# Altium footprint library PcbLib1.PcbLib: 39 footprints (part 2 of 3)
Each footprint in its own frame and in the unit in brackets; x right, y up, seen from the top. Pads: shape width x height; smd on the part's side, far side on the other; paste and mask are expansions set on the pad; w line width, h text height; cw(c..) or ccw(c..) is an arc to the next point about the centre after c.
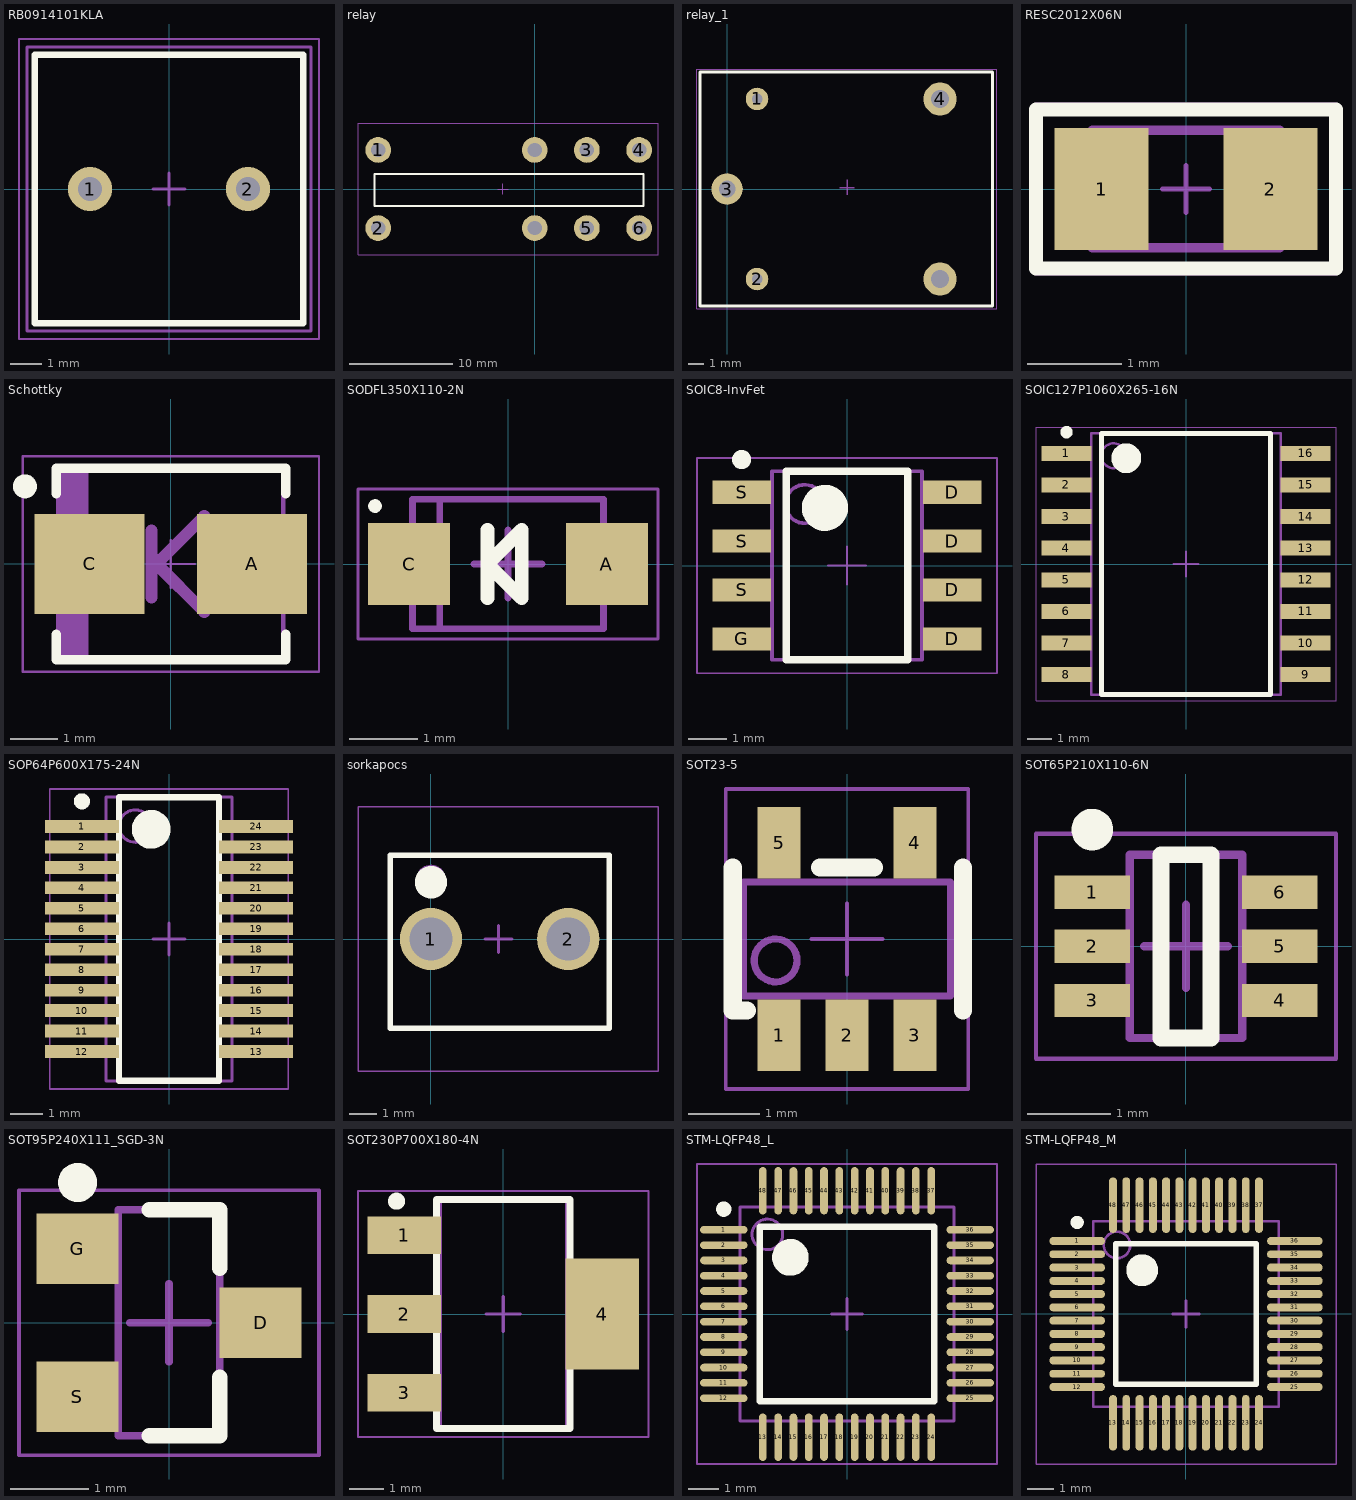
[diagram p1: the footprints below, top view; thin cyan lines are the x and y axes]

## RB0914101KLA [mm]
pads (2):
  round 1.4 hole 0.75: 1(-2.5,0) 2(2.5,0)
Top Overlay:
  lines w0.2: -4.25,-4.25 -4.25,4.25 4.25,4.25 4.25,-4.25 -4.25,-4.25
Mechanical 11:
  text ".Designator" at -4,4.25 h1
Mechanical 14:
  lines w0.1: -4.5,-4.5 -4.5,4.5 4.5,4.5 4.5,-4.5 -4.5,-4.5
Mechanical 15:
  lines w0.05: -4.75,-4.75 -4.75,4.75 4.75,4.75 4.75,-4.75 -4.75,-4.75
  lines w0.1: -0.5,0 0.5,0 ; 0,-0.5 0,0.5
3D body: height 12, standoff 0, extent -4.4,-4.4 4.4,4.4

## relay [mm]
pads (8):
  round 2.5 hole 1.4: 1(-15.24,3.8) 2(-15.24,-3.8) 3(5.08,3.8) 4(10.16,3.8) 5(5.08,-3.8) 6(10.16,-3.8) ""(0,-3.8) ""(0,3.8)
Top Overlay:
  lines w0.2: -15.6,-1.65 10.6,-1.65 10.6,1.45 -15.6,1.45 -15.6,-1.65
Mechanical 11:
  text ".Designator" at -9.2,7.225 h1
Mechanical 15:
  lines w0.05: -17.2,-6.4 12,-6.4 12,6.4 -17.2,6.4 -17.2,-6.4
  lines w0.1: -3.6,0 -2.6,0 ; -3.1,-0.5 -3.1,0.5
3D body: height 20.8, standoff 0, extent -17.1,-6.3 11.9,6.3

## relay_1 [mm]
pads (5):
  round 1.5 hole 0.7: 1(2,6) 2(2,-6)
  round 2.1 hole 1.1: 3(0,0)
  round 2.2 hole 1.2: 4(14.2,6) ""(14.2,-6)
Top Overlay:
  lines w0.2: -1.8,-7.8 17.7,-7.8 17.7,7.8 -1.8,7.8 -1.8,-7.8
Mechanical 11:
  text ".Designator" at 2.5,8.3 h1
Mechanical 15:
  lines w0.05: -2,-8 18,-8 18,8 -2,8 -2,-8
  lines w0.1: 7.5,0.1 8.5,0.1 ; 8,-0.4 8,0.6
3D body: height 15, standoff 0, extent -2,-7.9 17.5,7.9

## RESC2012X06N [mm] "Chip Resistor, 2-Leads, Body 2,00x1,25mm, IPC Low Density"
height 0.6
pads (2):
  rect 1x1.3 smd: 1(-0.9,0) 2(0.9,0)
Top Overlay:
  lines w0.15: -1.6,-0.85 -1.6,0.85 1.6,0.85 1.6,-0.85 -1.6,-0.85
Mechanical 11:
  text ".Designator" at -1.5,1.1 h0.3
Mechanical 14:
  lines w0.1: -0.6,-0.625 -0.6,0.625 ; 0.6,-0.625 0.6,0.625 ; -1,-0.625 1,-0.625 1,0.625 -1,0.625 -1,-0.625
Mechanical 15:
  lines w0.05: -0.25,0 0.25,0 ; 0,-0.25 0,0.25 ; -1.6,-0.9 -1.6,0.9 1.6,0.9 1.6,-0.9 -1.6,-0.9
3D body "0805rES.step": height 0.45, standoff 0, extent -1,-0.625 1,0.625

## Schottky [mm] "Molded Diode, 2-Leads, Body 4,38x3,62mm, IPC Medium Density"
height 2.5
pads (2):
  rect 2.3x2.1 smd: A(1.7,0) C(-1.7,0)
Top Overlay:
  circle w0.25: c-3.05,1.625 r0.125
  lines w0.2: -2.4,-1.475 -2.4,-2 2.4,-2 2.4,-1.475 ; -2.4,1.475 -2.4,2 2.4,2 2.4,1.475
Mechanical 11:
  text ".Designator" at -1.25,-0.1 h0.3
Mechanical 14:
  rectangle: -2.35,-1.97 -1.718,1.97
  lines w0.1: -2.35,-1.97 -2.35,1.97 2.35,1.97 2.35,-1.97 -2.35,-1.97
  lines w0.254: -0.4,-0.7 -0.4,0.7 ; -0.3,0 0.7,-1 0.7,1 -0.2,0.1 -0.3,0
Mechanical 15:
  lines w0.05: -0.5,0 0.5,0 ; 0,-0.5 0,0.5 ; -3.1,-2.25 -3.1,2.25 3.1,2.25 3.1,-2.25 -3.1,-2.25
3D body "DO-214AA_SMB.step": height 2.24, standoff -0.01, extent -2.65,-1.85 2.65,1.85

## SODFL350X110-2N [mm] "SODFL, 2-Leads, Body 1,70x3,50mm, IPC Medium Density"
height 1.1
pads (2):
  rect 1.2x1.2 smd: A(1.45,0) C(-1.45,0)
Top Overlay:
  circle w0.1: c-1.95,0.85 r0.05
  lines w0.2: -0.3,-0.5 -0.3,0.5 ; -0.3,0 0.2,0.5 0.2,-0.5 -0.3,0
Mechanical 11:
  text ".Designator" at -0.75,-0.3 h1
Mechanical 14:
  lines w0.1: -1,-0.95 -1,0.95 ; -1.4,-0.95 1.4,-0.95 1.4,0.95 -1.4,0.95 -1.4,-0.95
Mechanical 15:
  lines w0.05: -2.2,-1.1 2.2,-1.1 2.2,1.1 -2.2,1.1 -2.2,-1.1
  lines w0.1: -0.5,0 0.5,0 ; 0,-0.5 0,0.5
3D body "SODFL350X110-2N.step": height 1.1, standoff 0, extent -1.75,-0.95 1.75,0.95

## SOIC8-InvFet [mm] "SOIC, 8-Leads, Body 4.9x3.9mm, Pitch 1.27mm"
height 1.75
pads (8):
  rect 1.52x0.6 smd: D(2.74,-1.905) D(2.74,-0.635) D(2.74,0.635) D(2.74,1.905) G(-2.74,-1.905) S(-2.74,-0.635) S(-2.74,0.635) S(-2.74,1.905)
Top Overlay:
  circle w0.25: c-2.74,2.755 r0.125
  circle w0.6: c-0.575,1.5 r0.3
  lines w0.2: -1.58,-2.45 -1.58,2.45 1.58,2.45 1.58,-2.45 -1.58,-2.45
Mechanical 11:
  text ".Designator" at -4,0.5 h1
Mechanical 14:
  circle w0.1: c-1.1,1.6 r0.5
  lines w0.1: -1.95,-2.45 -1.95,2.45 1.95,2.45 1.95,-2.45 -1.95,-2.45
Mechanical 15:
  lines w0.05: -0.5,0 0.5,0 ; 0,-0.5 0,0.5 ; -3.9,-2.8 -3.9,2.8 3.9,2.8 3.9,-2.8 -3.9,-2.8
3D body: height 1.75, standoff 0.1, extent -1.95,-2.45 1.95,2.45

## SOIC127P1060X265-16N [mm] "SOIC, 16-Leads, Body 10,30x7,50mm, Pitch 1,27mm, IPC Medium Density"
height 2.65
pads (16):
  rect 2x0.6 smd: 1(-4.8,4.445) 2(-4.8,3.175) 3(-4.8,1.905) 4(-4.8,0.635) 5(-4.8,-0.635) 6(-4.8,-1.905) 7(-4.8,-3.175) 8(-4.8,-4.445) 9(4.8,-4.445) 10(4.8,-3.175) 11(4.8,-1.905) 12(4.8,-0.635) 13(4.8,0.635) 14(4.8,1.905) 15(4.8,3.175) 16(4.8,4.445)
Top Overlay:
  circle w0.6: c-2.4,4.25 r0.3
  circle w0.25: c-4.8,5.295 r0.125
  lines w0.2: -3.4,-5.25 3.4,-5.25 3.4,5.25 -3.4,5.25 -3.4,-5.25
Mechanical 11:
  text ".Designator" at -1.37,0.07 h1.52
Mechanical 14:
  circle w0.1: c-2.9,4.35 r0.5
  lines w0.1: -3.8,-5.25 3.8,-5.25 3.8,5.25 -3.8,5.25 -3.8,-5.25
Mechanical 15:
  lines w0.05: -6.025,-5.5 6.025,-5.5 6.025,5.5 -6.025,5.5 -6.025,-5.5
  lines w0.1: -0.5,0 0.5,0 ; 0,-0.5 0,0.5
3D body "SOIC127P1060X265-16N.step": height 2.65, standoff 0, extent -5.315,-5.25 5.315,5.25

## SOP64P600X175-24N [mm] "SOP, 24-Leads, Body 8,66x3,91mm, Pitch 0,64mm, IPC Medium Density"
height 1.75
pads (24):
  rect 2.3x0.4 smd: 1(-2.7,3.492) 2(-2.7,2.857) 3(-2.7,2.222) 4(-2.7,1.587) 5(-2.7,0.953) 6(-2.7,0.318) 7(-2.7,-0.318) 8(-2.7,-0.953) 9(-2.7,-1.587) 10(-2.7,-2.222) 11(-2.7,-2.857) 12(-2.7,-3.492) 13(2.7,-3.492) 14(2.7,-2.857) 15(2.7,-2.222) 16(2.7,-1.587) 17(2.7,-0.953) 18(2.7,-0.318) 19(2.7,0.318) 20(2.7,0.953) 21(2.7,1.587) 22(2.7,2.222) 23(2.7,2.857) 24(2.7,3.492)
Top Overlay:
  circle w0.6: c-0.55,3.4 r0.3
  circle w0.25: c-2.7,4.267 r0.125
  lines w0.2: -1.55,-4.4 1.55,-4.4 1.55,4.4 -1.55,4.4 -1.55,-4.4
Mechanical 11:
  text ".Designator" at -4.9,5.225 h1
Mechanical 14:
  circle w0.1: c-1.05,3.5 r0.5
  lines w0.1: -1.95,-4.4 1.95,-4.4 1.95,4.4 -1.95,4.4 -1.95,-4.4
Mechanical 15:
  lines w0.05: -3.7,-4.65 3.7,-4.65 3.7,4.65 -3.7,4.65 -3.7,-4.65
  lines w0.1: -0.5,0 0.5,0 ; 0,-0.5 0,0.5
3D body "SOP64P600X175-24N.step": height 1.75, standoff 0, extent -2.995,-4.4 2.995,4.4

## sorkapocs [mm]
pads (2):
  round 2.3 hole 1.6: 1(0,0) 2(5.08,0)
Top Overlay:
  circle w0.6: c0,2.1 r0.3
  lines w0.2: -1.5,-3.3 6.6,-3.3 6.6,3.1 -1.5,3.1 -1.5,-3.3
Mechanical 11:
  text ".Designator" at -2.36,7.765 h1
Mechanical 14:
  circle w0.1: c0,2.2 r0.5
  lines w0.1: -1.5,-3.3 6.6,-3.3 6.6,3.1 -1.5,3.1 -1.5,-3.3
Mechanical 15:
  lines w0.05: -2.7,-4.9 8.4,-4.9 8.4,4.9 -2.7,4.9 -2.7,-4.9
  lines w0.1: 2,0 3,0 ; 2.5,-0.5 2.5,0.5
3D body "38261.stp": height 15.01, standoff -3.49, extent -2.54,-4.75 8.19,4.75

## SOT23-5 [mm]
pads (5):
  rect 0.6x1 smd: 1(-0.95,-1.35) 2(0,-1.35) 3(0.95,-1.35) 4(0.95,1.35) 5(-0.95,1.35)
Top Overlay:
  lines w0.254: -1.6,1 -1.6,-1 -1.4,-1 ; -0.375,1 0.375,1 ; 1.625,-1 1.625,1
Mechanical 11:
  text ".Designator" at -0.9,0 h1
Mechanical 14:
  circle w0.1: c-1,-0.3 r0.3
  lines w0.1: -1.45,-0.8 -1.45,0.8 1.45,0.8 1.45,-0.8 -1.45,-0.8
Mechanical 15:
  lines w0.05: -0.5,0 0.5,0 ; 0,-0.5 0,0.5 ; -1.7,-2.1 -1.7,2.1 1.7,2.1 1.7,-2.1 -1.7,-2.1
3D body "SOT 23-5 MO-178C.step": height 1.45, standoff 0, extent -1.45,-1.405 1.45,1.405

## SOT65P210X110-6N [mm] "SOT23, 6-Leads, Body 2,00x2,10mm, Pitch 0,65mm, IPC Medium Density"
height 1.1
pads (6):
  rect 0.9x0.4 smd: 1(-1.125,0.65) 2(-1.125,0) 3(-1.125,-0.65) 4(1.125,-0.65) 5(1.125,0) 6(1.125,0.65)
Top Overlay:
  circle w0.25: c-1.125,1.4 r0.125
  lines w0.2: -0.3,-1.1 0.3,-1.1 0.3,1.1 -0.3,1.1 -0.3,-1.1
Mechanical 11:
  text ".Designator" at -1.325,-0.25 h1
Mechanical 14:
  lines w0.1: -0.675,-1.1 -0.675,1.1 0.675,1.1 0.675,-1.1 -0.675,-1.1
Mechanical 15:
  lines w0.05: -1.8,-1.35 -1.8,1.35 1.8,1.35 1.8,-1.35 -1.8,-1.35
  lines w0.1: -0.5,0 0.5,0 ; 0,-0.5 0,0.5
3D body "SOT65P210X110-6N.step": height 1.1, standoff 0, extent -1.3,-1.1 1.3,1.1

## SOT95P240X111_SGD-3N [mm] "SOT23, 3-Leads, Body 2,90x2,37mm, Pitch 0,95mm, IPC Medium Density"
height 1.11
pads (3):
  rect 1.05x0.9 smd: D(1.175,0) G(-1.175,0.95) S(-1.175,-0.95)
Top Overlay:
  circle w0.25: c-1.175,1.8 r0.125
  lines w0.2: -0.25,-1.45 0.65,-1.45 0.65,-0.7 ; -0.25,1.45 0.65,1.45 0.65,0.7
Mechanical 11:
  text ".Designator" at -1.35,-0.175 h0.3
Mechanical 14:
  lines w0.1: -0.65,-1.15 -1.1,-1.15 -1.1,-0.75 -0.65,-0.75 ; -0.65,0.75 -1.1,0.75 -1.1,1.15 -0.65,1.15 ; 0.65,-0.2 1.1,-0.2 1.1,0.2 0.65,0.2 ; -0.65,-1.45 -0.65,1.45 0.65,1.45 0.65,-1.45 -0.65,-1.45
Mechanical 15:
  lines w0.05: -1.925,-1.7 -1.925,1.7 1.925,1.7 1.925,-1.7 -1.925,-1.7
  lines w0.1: -0.5,0 0.5,0 ; 0,-0.5 0,0.5
3D body "SW3dPS-SOT-23.step": height 0.98, standoff -0.01, extent -1.21,-1.448 1.21,1.448

## SOT230P700X180-4N [mm] "SOT223, 4-Leads, Body 6,50x7,00mm (avg), Pitch 2,30mm, IPC Medium Density"
height 1.8
pads (4):
  rect 2.15x1.1 smd: 1(-2.9,2.3) 2(-2.9,0) 3(-2.9,-2.3)
  rect 2.15x3.25 smd: 4(2.9,0)
Top Overlay:
  circle w0.25: c-3.125,3.3 r0.125
  lines w0.2: -1.95,-3.35 1.95,-3.35 1.95,3.35 -1.95,3.35 -1.95,-3.35
Mechanical 11:
  text ".Designator" at -2.502,-0.06 h1
Mechanical 14:
  lines w0.1: -1.85,-3.35 1.85,-3.35 1.85,3.35 -1.85,3.35 -1.85,-3.35
Mechanical 15:
  lines w0.05: -4.25,-3.6 4.25,-3.6 4.25,3.6 -4.25,3.6 -4.25,-3.6
  lines w0.1: -0.5,0 0.5,0 ; 0,-0.5 0,0.5
3D body "SOT230P700X180-4N.step": height 1.8, standoff 0, extent -3.5,-3.35 3.5,3.35

## STM-LQFP48_L [mm] "QFP, 48-Leads, Body 7x7mm, Pitch 0.5mm, IPC High Density"
height 1.6
pads (48):
  oval 1.55x0.25 smd: 1(-4.025,2.75) 2(-4.025,2.25) 3(-4.025,1.75) 4(-4.025,1.25) 5(-4.025,0.75) 6(-4.025,0.25) 7(-4.025,-0.25) 8(-4.025,-0.75) 9(-4.025,-1.25) 10(-4.025,-1.75) 11(-4.025,-2.25) 12(-4.025,-2.75) 25(4.025,-2.75) 26(4.025,-2.25) 27(4.025,-1.75) 28(4.025,-1.25) 29(4.025,-0.75) 30(4.025,-0.25) 31(4.025,0.25) 32(4.025,0.75) 33(4.025,1.25) 34(4.025,1.75) 35(4.025,2.25) 36(4.025,2.75)
  oval 0.25x1.55 smd: 13(-2.75,-4.025) 14(-2.25,-4.025) 15(-1.75,-4.025) 16(-1.25,-4.025) 17(-0.75,-4.025) 18(-0.25,-4.025) 19(0.25,-4.025) 20(0.75,-4.025) 21(1.25,-4.025) 22(1.75,-4.025) 23(2.25,-4.025) 24(2.75,-4.025) 37(2.75,4.025) 38(2.25,4.025) 39(1.75,4.025) 40(1.25,4.025) 41(0.75,4.025) 42(0.25,4.025) 43(-0.25,4.025) 44(-0.75,4.025) 45(-1.25,4.025) 46(-1.75,4.025) 47(-2.25,4.025) 48(-2.75,4.025)
Top Overlay:
  circle w0.25: c-4.025,3.425 r0.125
  circle w0.6: c-1.85,1.85 r0.3
  lines w0.2: -2.85,-2.85 -2.85,2.85 2.85,2.85 2.85,-2.85 -2.85,-2.85
Mechanical 13:
  circle w0.1: c-2.6,2.6 r0.5
  lines w0.1: -3.5,-3.5 -3.5,3.5 3.5,3.5 3.5,-3.5 -3.5,-3.5
Mechanical 15:
  lines w0.05: -4.9,-4.9 -4.9,4.9 4.9,4.9 4.9,-4.9 -4.9,-4.9
  lines w0.1: -0.5,0 0.5,0 ; 0,-0.5 0,0.5
3D body: height 1.6, standoff 0.05, extent -3.5,-3.5 3.5,3.5

## STM-LQFP48_M [mm] "QFP, 48-Leads, Body 7x7mm, Pitch 0.5mm, IPC Low Density"
height 1.6
pads (48):
  oval 2.1x0.3 smd: 1(-4.1,2.75) 2(-4.1,2.25) 3(-4.1,1.75) 4(-4.1,1.25) 5(-4.1,0.75) 6(-4.1,0.25) 7(-4.1,-0.25) 8(-4.1,-0.75) 9(-4.1,-1.25) 10(-4.1,-1.75) 11(-4.1,-2.25) 12(-4.1,-2.75) 25(4.1,-2.75) 26(4.1,-2.25) 27(4.1,-1.75) 28(4.1,-1.25) 29(4.1,-0.75) 30(4.1,-0.25) 31(4.1,0.25) 32(4.1,0.75) 33(4.1,1.25) 34(4.1,1.75) 35(4.1,2.25) 36(4.1,2.75)
  oval 0.3x2.1 smd: 13(-2.75,-4.1) 14(-2.25,-4.1) 15(-1.75,-4.1) 16(-1.25,-4.1) 17(-0.75,-4.1) 18(-0.25,-4.1) 19(0.25,-4.1) 20(0.75,-4.1) 21(1.25,-4.1) 22(1.75,-4.1) 23(2.25,-4.1) 24(2.75,-4.1) 37(2.75,4.1) 38(2.25,4.1) 39(1.75,4.1) 40(1.25,4.1) 41(0.75,4.1) 42(0.25,4.1) 43(-0.25,4.1) 44(-0.75,4.1) 45(-1.25,4.1) 46(-1.75,4.1) 47(-2.25,4.1) 48(-2.75,4.1)
Top Overlay:
  circle w0.6: c-1.65,1.65 r0.3
  circle w0.25: c-4.1,3.45 r0.125
  lines w0.2: -2.65,-2.65 2.65,-2.65 2.65,2.65 -2.65,2.65 -2.65,-2.65
Mechanical 13:
  circle w0.1: c-2.6,2.6 r0.5
  lines w0.1: -3.5,-3.5 3.5,-3.5 3.5,3.5 -3.5,3.5 -3.5,-3.5
Mechanical 15:
  lines w0.05: -5.65,-5.65 5.65,-5.65 5.65,5.65 -5.65,5.65 -5.65,-5.65
  lines w0.1: -0.5,0 0.5,0 ; 0,-0.5 0,0.5
3D body: height 1.6, standoff 0.05, extent -3.5,-3.5 3.5,3.5